# Altium footprint library 640456-2.PcbLib: 1 footprints
Each footprint in its own frame and in the unit in brackets; x right, y up, seen from the top. Pads: shape width x height; smd on the part's side, far side on the other; paste and mask are expansions set on the pad; w line width, h text height; cw(c..) or ccw(c..) is an arc to the next point about the centre after c.
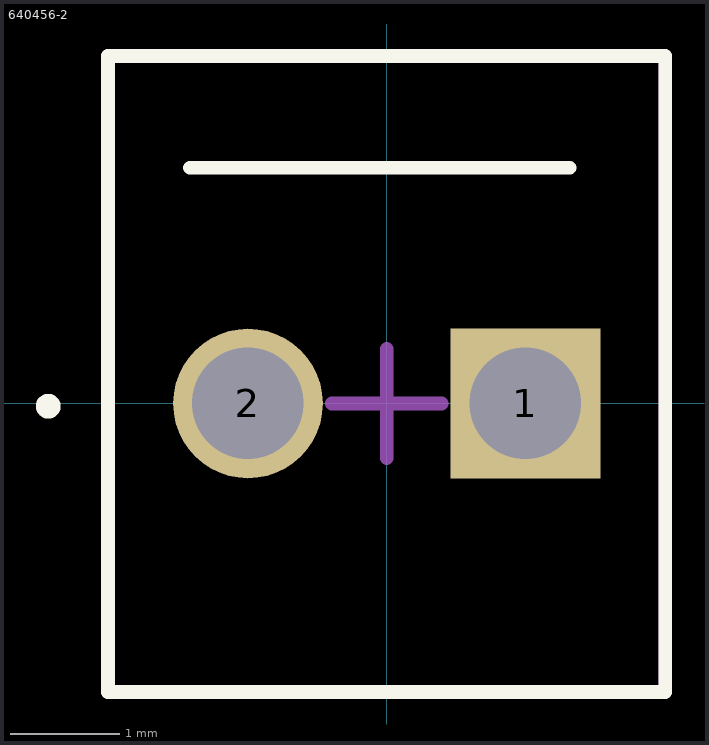
[diagram p0: the footprint, top view; thin cyan lines are the x and y axes]

## 640456-2 [mm]
pads (2):
  rect 1.37x1.37 hole 1.02 mask+0.102: 1(1.27,0)
  round 1.37 hole 1.02: 2(-1.27,0)
Top Overlay:
  circle w0.127: c-3.099,-0.025 r0.05
  lines w0.127: -1.8,2.157 1.675,2.157 ; -2.55,-2.643 2.55,-2.643 2.55,3.182 -2.55,3.182 -2.55,-2.643
Mechanical 13:
  lines w0.127: -2.55,-2.643 -2.55,3.182 2.55,3.182 2.55,-2.643 -2.55,-2.643
Mechanical 15:
  lines w0.127: -0.5,0 0,0 ; 0,0 0,0.5 0,-0.5 0,0 ; 0,0 0.5,0 0,0
3D body "640456-2.stp": height 10.49, standoff -3.1, extent -2.54,-2.654 2.54,3.188